# EAGLE library part A0009-AL (library Kicker)
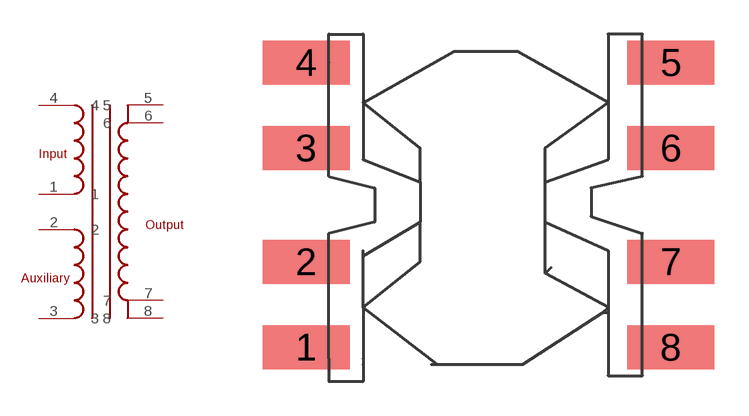
[diagram p0: symbol with the pads of SM; footprint SM]

Designator prefix -

## A0009-AL  [SM]
1  1
2  2
3  3
4  4
5  5
6  6
7  7
8  8

## Footprint SM (pad centres in mm)
smd 3.81 x 1.93: 1 0.5,-3.5; 2 0.5,0.25; 3 0.5,5.25; 4 0.5,9; 5 16.5,9; 6 16.5,5.25; 7 16.5,0.25; 8 16.5,-3.5